# Altium schematic symbol library digital_potentiometer.SchLib: 1 symbol
Pins are listed as number, name and electrical type; pins without a type are passive.

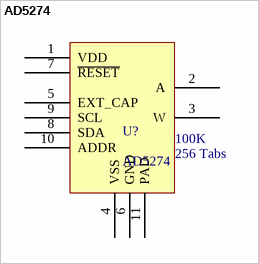
[diagram p0: symbol AD5274]

## AD5274
designator U?  value 100K
1024-/256-Position, 1% Resistor Tolerance Error, I2C Interface and 50-TP Memory Digital Rheostat; Supplier 1: Digi-Key; Supplier Part Number 1: AD5274BCPZ-100-RL7CT-ND
footprint LFCSP_WD (QFN, 10-Leads, Body 3.00x3.00mm, Pitch 0.50mm, Thermal Pad 1.63x2.36mm, IPC Medium Density)
pins: 1 VDD, 2 A, 3 W, 4 VSS, 5 EXT_CAP, 6 GND, 7 ~{RESET}, 8 SDA, 9 SCL, 10 ADDR, 11 PAD
text: 256 Tabs